# EAGLE library part ADUM5230 (library noah)
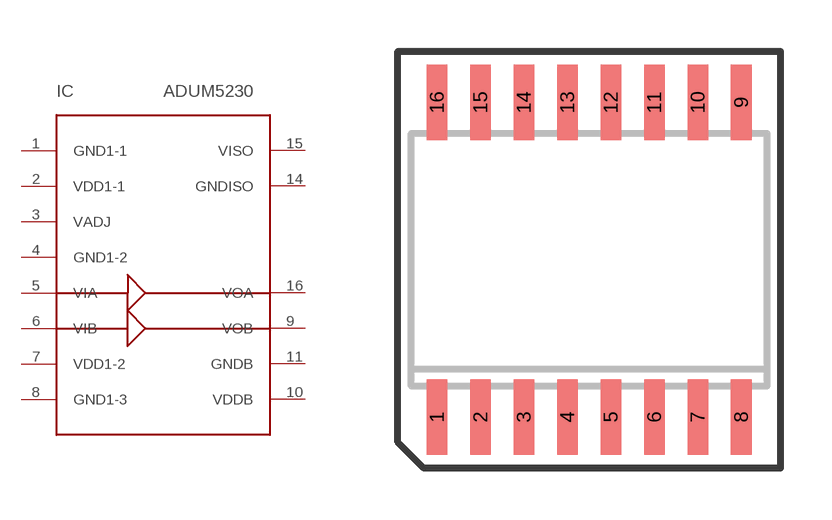
[diagram p30: symbol with the pads of SO16W; footprint SO16W]

Designator prefix IC

## ADUM5230  [SO16W]
1  GND1-1
2  VDD1-1
3  VADJ
4  GND1-2
5  VIA
6  VIB
7  VDD1-2
8  GND1-3
9  VOB
10  VDDB
11  GNDB
14  GNDISO
15  VISO
16  VOA

## Footprint SO16W (pad centres in mm)
SMALL OUTLINE INTEGRATED CIRCUIT wide body 7.5 mm/JEDEC MS-013AA
smd 0.6 x 2.2: 1 -4.445,-4.6; 2 -3.175,-4.6; 3 -1.905,-4.6; 4 -0.635,-4.6; 5 0.635,-4.6; 6 1.905,-4.6; 7 3.175,-4.6; 8 4.445,-4.6; 9 4.445,4.6; 10 3.175,4.6; 11 1.905,4.6; 12 0.635,4.6; 13 -0.635,4.6; 14 -1.905,4.6; 15 -3.175,4.6; 16 -4.445,4.6